# Altium footprint library TIDA-01576_ADS8686S_AFE.PcbLib: 71 footprints (part 5 of 5)
Each footprint in its own frame and in the unit in brackets; x right, y up, seen from the top. Pads: shape width x height; smd on the part's side, far side on the other; paste and mask are expansions set on the pad; w line width, h text height; cw(c..) or ccw(c..) is an arc to the next point about the centre after c.
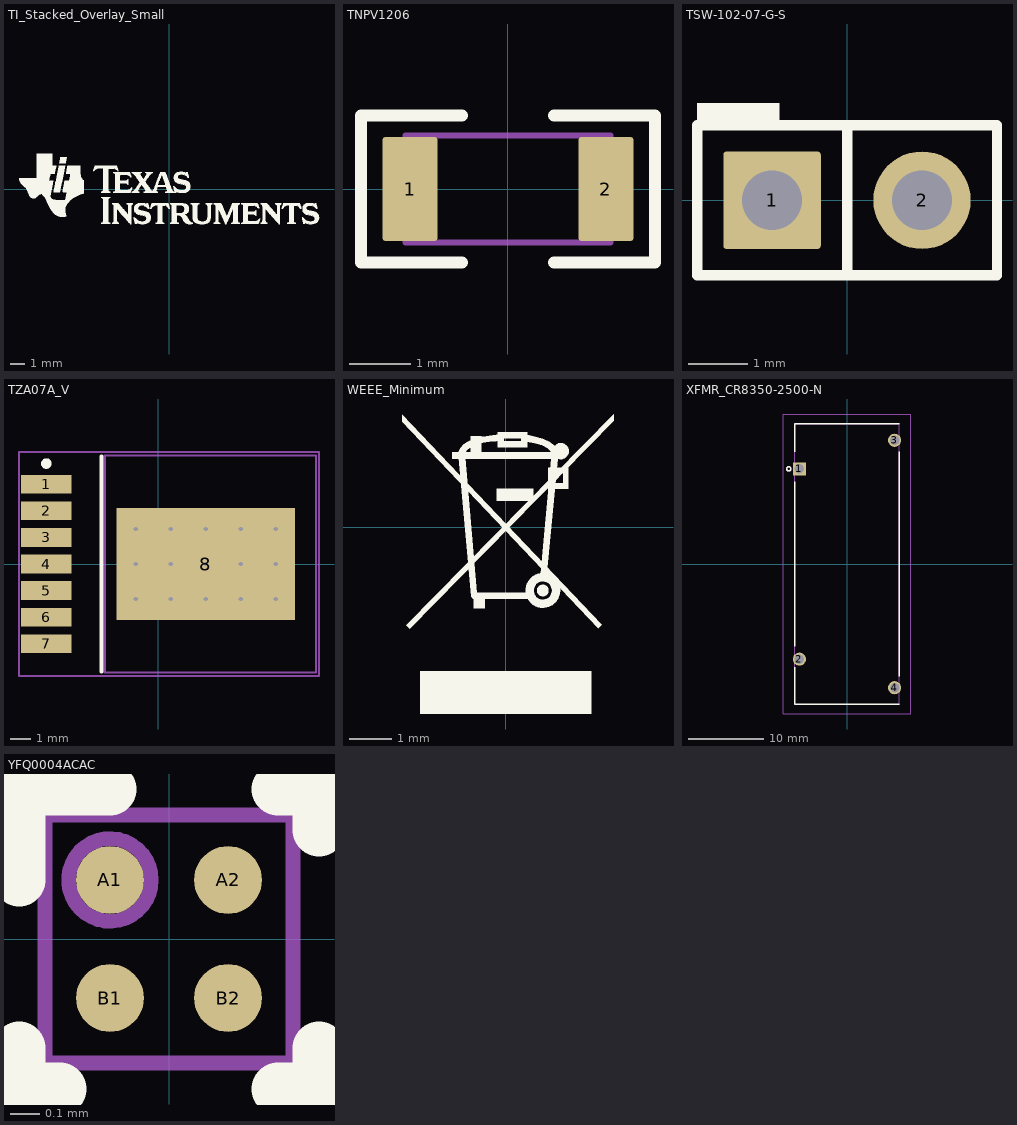
[diagram p4: the footprints below, top view; thin cyan lines are the x and y axes]

## TI_Stacked_Overlay_Small [mm]
Top Overlay:
  drawing of 18 lines, arcs and shapes, not listed

## TNPV1206 [mm] "VISHAY"
height 0.65
pads (2):
  rrect11% 0.9x1.7 smd: 1(-1.6,0) 2(1.6,0)
Top Overlay:
  lines w0.2: -0.75,-1.2 -2.4,-1.2 -2.4,1.2 -0.75,1.2 ; 0.75,-1.2 2.4,-1.2 2.4,1.2 0.75,1.2
Mechanical 5:
  lines w0.1: -1.675,-0.875 1.675,-0.875 1.675,0.875 -1.675,0.875 -1.675,-0.875
  text ".Designator" at -0.722,-0.321 h0.51
3D body: height 0.65, standoff 0, extent -1.099,-0.874 1.099,0.874
3D body: height 0.65, standoff 0, extent -1.674,-0.874 -1.101,0.874
3D body: height 0.65, standoff 0, extent 1.101,-0.874 1.674,0.874

## TSW-102-07-G-S [mm] "Samtec 100mil, 1x2, 230 mil above insulator"
height 8.382
pads (2):
  rrect6% 1.65x1.65 hole 1.016: 1(-1.27,0)
  round 1.65 hole 1.016: 2(1.27,0)
Top Overlay:
  rectangle: -2.541,1.27 -1.144,1.651
  lines w0.178: 0,-1.27 0,1.27 ; -2.54,-1.27 -2.54,1.27 2.54,1.27 2.54,-1.27 -2.54,-1.27
Mechanical 5:
  lines w0.127: -2.54,-1.27 2.54,-1.27 2.54,1.27 -2.54,1.27 -2.54,-1.27
  text ".Designator" at -0.39,-0.232 h0.51
3D body "SamtecTSW-07_2x1.stp": height 8.38, standoff -2.54, extent -2.54,-1.27 2.54,1.27

## TZA07A_V [mm] "D2-PAK, 8-Leads, Body 9.9x10.2mm, Pitch 1.27mm, Lead Span 13.8mm, NSC Recommended"
height 4.67
pads (8):
  rect 2.41x0.89 smd: 1(-5.35,3.81) 2(-5.35,2.54) 3(-5.35,1.27) 4(-5.35,0) 5(-5.35,-1.27) 6(-5.35,-2.54) 7(-5.35,-3.81)
  rect 8.54x5.35 smd: 8(2.28,0)
via 0.604,1.676 diameter 0.5 hole 0.2
via 2.28,1.676 diameter 0.5 hole 0.2
via -1.073,1.676 diameter 0.5 hole 0.2
via 0.604,0 diameter 0.5 hole 0.2
via 2.28,0 diameter 0.5 hole 0.2
via -1.073,0 diameter 0.5 hole 0.2
via 5.633,1.676 diameter 0.5 hole 0.2
via 5.633,0 diameter 0.5 hole 0.2
via -1.073,-1.676 diameter 0.5 hole 0.2
via 2.28,-1.676 diameter 0.5 hole 0.2
via 0.604,-1.676 diameter 0.5 hole 0.2
via 3.956,0 diameter 0.5 hole 0.2
via 3.956,1.676 diameter 0.5 hole 0.2
via 3.956,-1.676 diameter 0.5 hole 0.2
via 5.633,-1.676 diameter 0.5 hole 0.2
Top Overlay:
  circle w0.25: c-5.35,4.805 r0.125
  lines w0.2: -2.7,-5.15 -2.7,5.15
Mechanical 5:
  text ".Designator" at -1.524,-0.508 h0.51
Mechanical 13:
  lines w0.1: -2.55,-5.2 7.55,-5.2 7.55,5.2 -2.55,5.2 -2.55,-5.2
Mechanical 15:
  lines w0.1: -0.5,0 0.5,0 ; 0,-0.5 0,0.5 ; -6.655,-5.35 7.7,-5.35 7.7,5.35 -6.655,5.35 -6.655,-5.35
3D body: height 4.67, standoff 0, extent -2.55,-5.2 7.55,5.2

## WEEE_Minimum [mm] "WEEElie bin"
height 1.75
Top Overlay:
  drawing of 23 lines, arcs and shapes, not listed

## XFMR_CR8350-2500-N [mm] "CURRENT TRANSFORMERS, VERTICAL, 4 PIN, THRU"
height 39
pads (4):
  rect 1.754x1.754 / inner round 1.754 / far side rect 1.754x1.754 hole 1.254: 1(-6.35,12.7)
  round 1.754 hole 1.254: 2(-6.35,-12.7) 3(6.35,16.51) 4(6.35,-16.51)
Top Overlay:
  circle w0.178: c-7.76,12.7 r0.279
  lines w0.178: -7,-13.75 -7,-18.75 7,-18.75 ; -7,-11 -7,11 ; -7,15 -7,18.75 7,18.75 ; 7,-15 7,15
Bottom Overlay:
  lines w0.178: -7,-16.75 -7,-18.75 -5,-18.75 ; -7,-14.75 -7,-13.75 ; -7,-10.75 -7,-9.75 ; -7,-8.75 -7,-7.75 ; -7,-6.75 -7,-4.75 ; -7,-3 -7,-2 ; -7,-1 -7,0 ; -7,1 -7,3 ; -7,6 -7,7 ; -7,8 -7,9 ; -7,14.75 -7,15.75 ; -7,16.75 -7,18.75 -5,18.75 ; -6.985,3.937 -6.985,4.937 ; -6.985,10.033 -6.985,11.033 ; -3,-18.75 -2,-18.75 ; -3,18.75 -2,18.75 ; -1,-18.75 0,-18.75 ; -1,18.75 0,18.75 ; 1,-18.75 2,-18.75 ; 1,18.75 2,18.75 ; 3,-18.75 4,-18.75 ; 3,18.75 4,18.75 ; 5,-18.75 7,-18.75 7,-17.78 ; 5,18.75 7,18.75 7,17.653 ; 6.985,-12.684 6.985,-11.684 ; 6.985,4.08 6.985,5.08 ; 6.985,13.716 6.985,14.716 ; 7,-14.75 7,-13.75 ; 7,-10.75 7,-9.75 ; 7,-8.75 7,-7.75 ; 7,-6.75 7,-4.75 ; 7,-3 7,-2 ; 7,-1 7,0 ; 7,1 7,3 ; 7,6 7,7 ; 7,8 7,9 ; 7,10 7,12
Mechanical 5:
  circle w0.127: c-7.76,12.7 r0.279
  lines w0.127: -7,-18.75 -7,18.75 7,18.75 7,-18.75 -7,-18.75
  text ".Designator" at 0.457,0.911 h0.51
Mechanical 15:
  lines w0.05: -8.497,-20.02 -8.497,20.02 8.497,20.02 8.497,-20.02 -8.497,-20.02
Mechanical 17:
  text "LEAD LENGTH IS 6MM" at -7.747,9.017 h1.05
3D body: height 39, standoff 0, extent -7,-18.75 7,18.75

## YFQ0004ACAC [mm] "WCSP, 4-Leads, Body 0.84x0.84mm, Pitch 0.4mm"
height 0.575
pads (4):
  round 0.23 smd paste-0.13 mask+0.038: A1(-0.2,0.2) A2(0.2,0.2) B1(-0.2,-0.2) B2(0.2,-0.2)
Top Overlay:
  lines w0.18: -0.508,-0.37 -0.508,-0.508 -0.37,-0.508 ; -0.508,0.2 -0.508,0.5 ; -0.5,0.508 -0.2,0.508 ; 0.37,-0.508 0.508,-0.508 0.508,-0.37 ; 0.37,0.508 0.508,0.508 0.508,0.37
Top Paste:
  circle w0.05: c-0.125,-0.125 r0.025
  circle w0.05: c-0.275,-0.275 r0.025
  circle w0.05: c-0.275,-0.125 r0.025
  circle w0.05: c-0.125,-0.275 r0.025
  circle w0.05: c0.275,-0.275 r0.025
  circle w0.05: c0.125,-0.125 r0.025
  circle w0.05: c0.125,-0.275 r0.025
  circle w0.05: c0.275,-0.125 r0.025
  circle w0.05: c-0.125,0.275 r0.025
  circle w0.05: c-0.275,0.125 r0.025
  circle w0.05: c-0.275,0.275 r0.025
  circle w0.05: c-0.125,0.125 r0.025
  circle w0.05: c0.275,0.125 r0.025
  circle w0.05: c0.125,0.275 r0.025
  circle w0.05: c0.125,0.125 r0.025
  circle w0.05: c0.275,0.275 r0.025
  rectangle: -0.275,-0.325 -0.125,-0.275
  region: -0.325,-0.125 -0.325,-0.275 -0.275,-0.275 -0.275,-0.125
  region: -0.125,-0.075 -0.275,-0.075 -0.275,-0.125 -0.125,-0.125
  region: -0.075,-0.275 -0.075,-0.125 -0.125,-0.125 -0.125,-0.275
  region: -0.275,-0.125 -0.275,-0.275 -0.125,-0.275 -0.125,-0.125
  region: 0.125,-0.125 0.125,-0.275 0.275,-0.275 0.275,-0.125
  region: 0.325,-0.275 0.325,-0.125 0.275,-0.125 0.275,-0.275
  region: 0.275,-0.075 0.125,-0.075 0.125,-0.125 0.275,-0.125
  region: 0.075,-0.125 0.075,-0.275 0.125,-0.275 0.125,-0.125
  rectangle: 0.125,-0.325 0.275,-0.275
  rectangle: -0.275,0.075 -0.125,0.125
  region: -0.325,0.275 -0.325,0.125 -0.275,0.125 -0.275,0.275
  region: -0.125,0.325 -0.275,0.325 -0.275,0.275 -0.125,0.275
  region: -0.075,0.125 -0.075,0.275 -0.125,0.275 -0.125,0.125
  region: -0.275,0.275 -0.275,0.125 -0.125,0.125 -0.125,0.275
  region: 0.125,0.275 0.125,0.125 0.275,0.125 0.275,0.275
  region: 0.325,0.125 0.325,0.275 0.275,0.275 0.275,0.125
  region: 0.275,0.325 0.125,0.325 0.125,0.275 0.275,0.275
  region: 0.075,0.275 0.075,0.125 0.125,0.125 0.125,0.275
  rectangle: 0.125,0.075 0.275,0.125
Mechanical 5:
  circle w0.05: c-0.2,0.2 r0.14
  lines w0.05: -0.42,-0.42 0.42,-0.42 0.42,0.42 -0.42,0.42 -0.42,-0.42
  text ".Designator" at 1.934,0.206 h0.51
3D body: height 0.58, standoff 0, extent -0.419,-0.419 0.419,0.419
3D body: height 0.58, standoff 0.5, extent -0.341,0.059 -0.059,0.341